# Altium integrated library AMP CHAMP Miniature Ribbon 050 Series II.IntLib: 164 symbols (part 2 of 4)
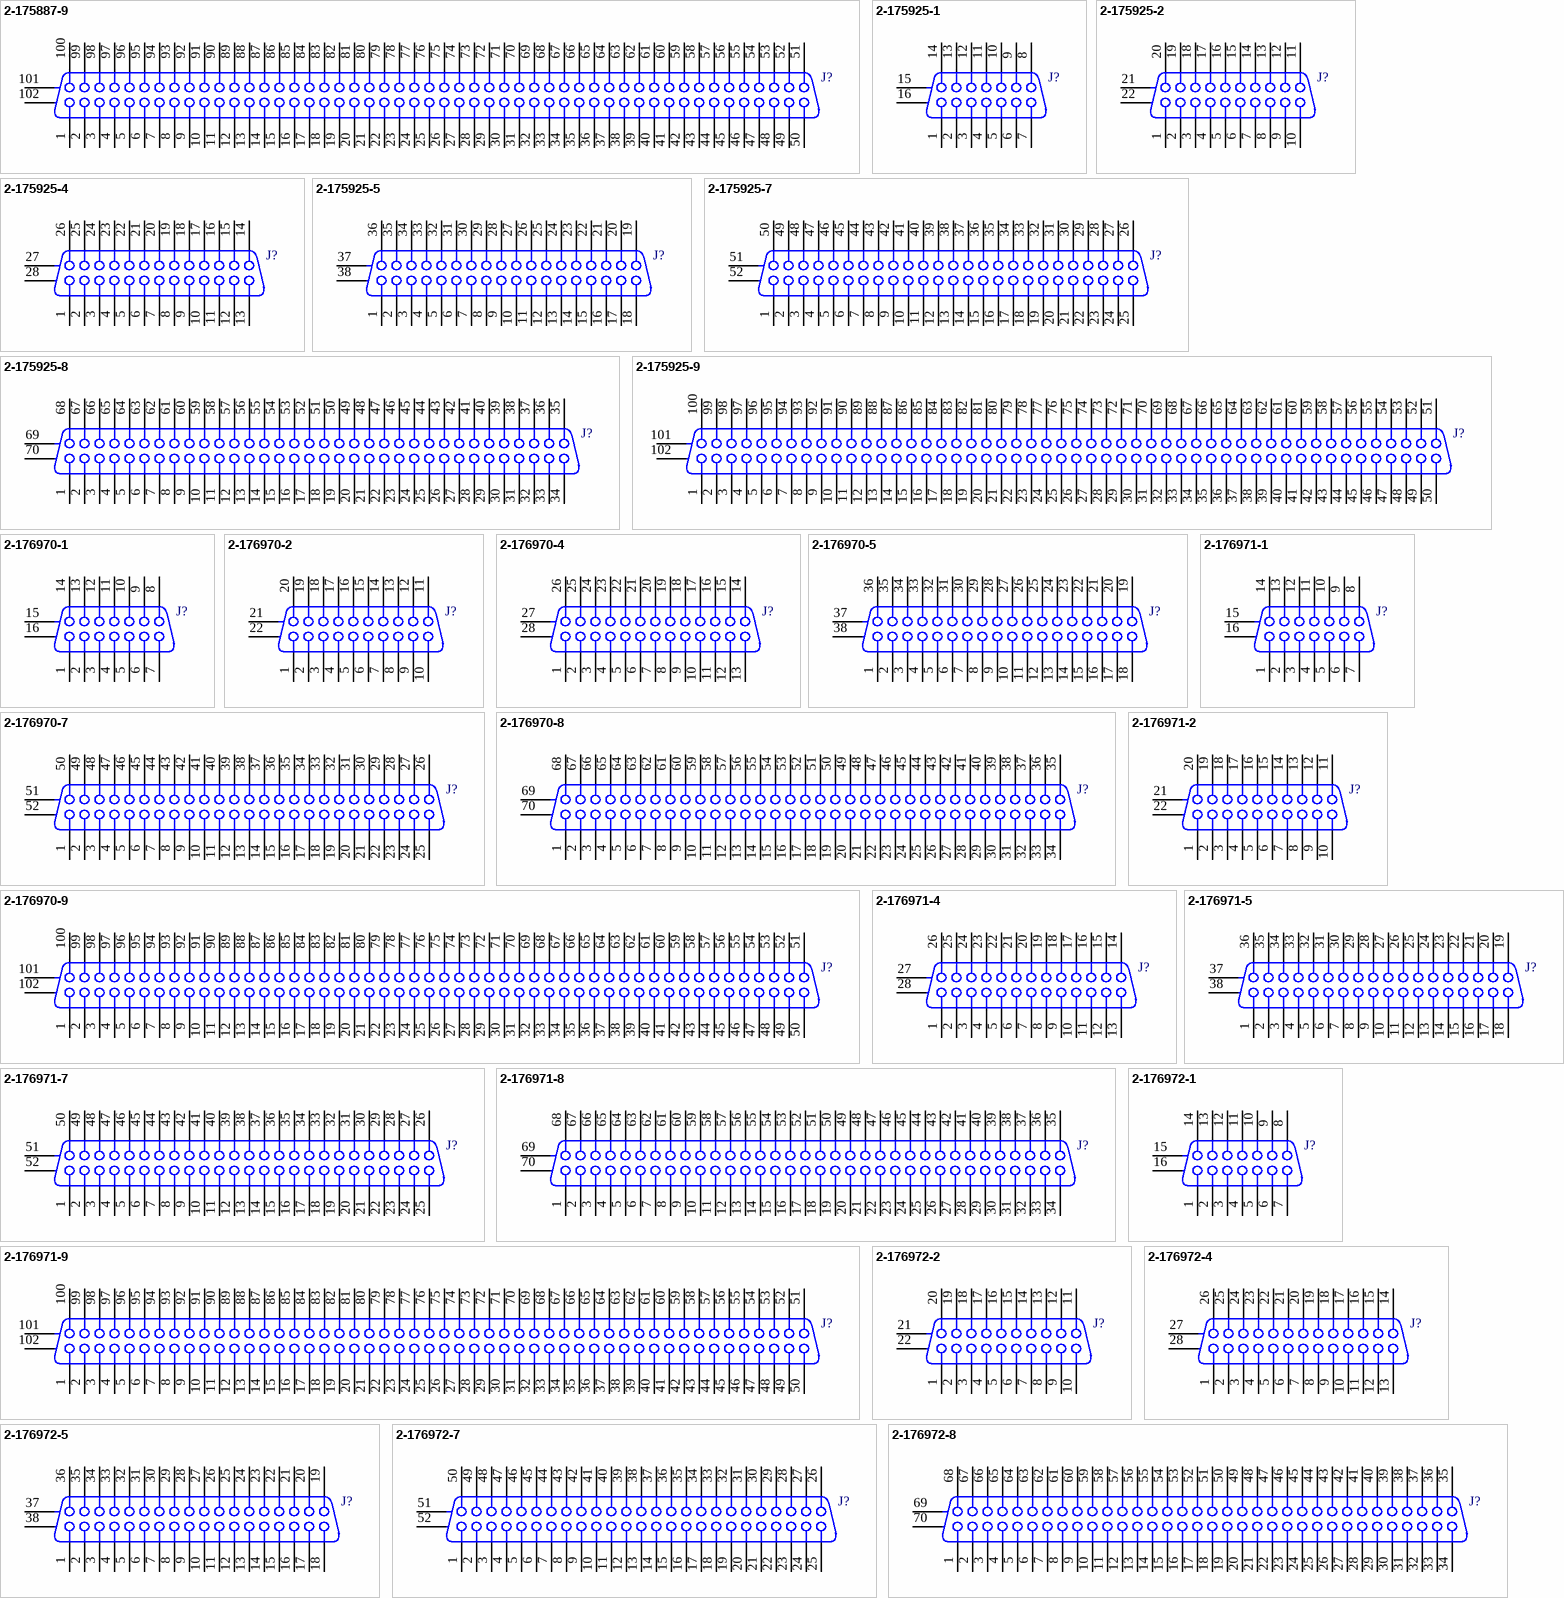
[diagram p7: symbols 2-175887-9 to 2-176972-8]

## 2-176971-8
designator J?
Receptacle Header Assemby (3.9mm) CHAMP .050 Series II Std-Type; ContactMaterial: Phosphor Bronze; ContactPlating: Gold (30); Positions: 68; PCB_Layout: Complies with manufacturer's recommendation.; DrillSize: Corresponds to nominal value.; ComponentAvailability: Obsolete; Published: 15-Jun-2001; LatestRevisionDate: 29-May-2009; LatestRevisionNote: Component Body Added.; DatasheetVersion: 21-Sep-1994; PackageVersion: 21-Sep-1994; PackageReference: 2-176971-8; Publisher: Altium Limited; Orientation: Right Angle; HousingMaterial: Nylon, UL 94V-0; ComponentLink1Description: Manufacturer Link; ComponentLink1URL: http://www.tycoelectronics.com/
footprint 2-176971-8 (Connector; CHAMP Miniature Ribbon 050 Series II; 68 Position; Right Angle)
signal-integrity model CHAMP
pins: 1, 2, 3, 4, 5, 6, 7, 8, 9, 10, 11, 12, 13, 14, 15, 16, 17, 18, 19, 20, 21, 22, 23, 24, 25, 26, 27, 28, 29, 30, 31, 32, 33, 34, 35, 36, 37, 38, 39, 40, 41, 42, 43, 44, 45, 46, 47, 48, 49, 50, 51, 52, 53, 54, 55, 56, 57, 58, 59, 60, 61, 62, 63, 64, 65, 66, 67, 68, 69 MH1, 70 MH2

## 2-176971-9
designator J?
Receptacle Header Assemby (3.9mm) CHAMP .050 Series II Std-Type; ContactMaterial: Phosphor Bronze; ContactPlating: Gold (30); Positions: 100; PCB_Layout: Complies with manufacturer's recommendation.; DrillSize: Corresponds to nominal value.; ComponentAvailability: Obsolete; Published: 15-Jun-2001; LatestRevisionDate: 29-May-2009; LatestRevisionNote: Component Body Added.; DatasheetVersion: 21-Sep-1994; PackageVersion: 21-Sep-1994; PackageReference: 2-176971-9; Publisher: Altium Limited; Orientation: Right Angle; HousingMaterial: Nylon, UL 94V-0; ComponentLink1Description: Manufacturer Link; ComponentLink1URL: http://www.tycoelectronics.com/
footprint 2-176971-9 (Connector; CHAMP Miniature Ribbon 050 Series II; 100 Position; Right Angle)
signal-integrity model CHAMP
pins: 1, 2, 3, 4, 5, 6, 7, 8, 9, 10, 11, 12, 13, 14, 15, 16, 17, 18, 19, 20, 21, 22, 23, 24, 25, 26, 27, 28, 29, 30, 31, 32, 33, 34, 35, 36, 37, 38, 39, 40, 41, 42, 43, 44, 45, 46, 47, 48, 49, 50, 51, 52, 53, 54, 55, 56, 57, 58, 59, 60, 61, 62, 63, 64, 65, 66, 67, 68, 69, 70, 71, 72, 73, 74, 75, 76, 77, 78, 79, 80, 81, 82, 83, 84, 85, 86, 87, 88, 89, 90, 91, 92, 93, 94, 95, 96, 97, 98, 99, 100, 101 MH1, 102 MH2

## 2-176972-1
designator J?
Receptacle Header Assemby (2.2mm) CHAMP .050 Series II Std-Type; ContactMaterial: Copper Alloy; ContactPlating: Gold (30); Positions: 14; PCB_Layout: Complies with manufacturer's recommendation.; DrillSize: Corresponds to nominal value.; ComponentAvailability: Obsolete; Published: 15-Jun-2001; LatestRevisionDate: 29-May-2009; LatestRevisionNote: Component Body Added.; DatasheetVersion: 24-Sep-1994; PackageVersion: 24-Sep-1994; PackageReference: 2-176972-1; Publisher: Altium Limited; Orientation: Right Angle; HousingMaterial: Zinc Die Cast, UL 94V-0; ComponentLink1Description: Manufacturer Link; ComponentLink1URL: http://www.tycoelectronics.com/
footprint 2-176972-1 (Connector; CHAMP Miniature Ribbon 050 Series II; 14 Position; Right Angle)
signal-integrity model CHAMP
pins: 1, 2, 3, 4, 5, 6, 7, 8, 9, 10, 11, 12, 13, 14, 15 MH1, 16 MH2

## 2-176972-2
designator J?
Receptacle Header Assemby (2.2mm) CHAMP .050 Series II Std-Type; ContactMaterial: Copper Alloy; ContactPlating: Gold (30); Positions: 20; PCB_Layout: Complies with manufacturer's recommendation.; DrillSize: Corresponds to nominal value.; ComponentAvailability: Obsolete; Published: 15-Jun-2001; LatestRevisionDate: 29-May-2009; LatestRevisionNote: Component Body Added.; DatasheetVersion: 24-Sep-1994; PackageVersion: 24-Sep-1994; PackageReference: 2-176972-2; Publisher: Altium Limited; Orientation: Right Angle; HousingMaterial: Zinc Die Cast, UL 94V-0; ComponentLink1Description: Manufacturer Link; ComponentLink1URL: http://www.tycoelectronics.com/
footprint 2-176972-2 (Connector; CHAMP Miniature Ribbon 050 Series II; 20 Position; Right Angle)
signal-integrity model CHAMP
pins: 1, 2, 3, 4, 5, 6, 7, 8, 9, 10, 11, 12, 13, 14, 15, 16, 17, 18, 19, 20, 21 MH1, 22 MH2

## 2-176972-4
designator J?
Receptacle Header Assemby (2.2mm) CHAMP .050 Series II Std-Type; ContactMaterial: Copper Alloy; ContactPlating: Gold (30); Positions: 26; PCB_Layout: Complies with manufacturer's recommendation.; DrillSize: Corresponds to nominal value.; ComponentAvailability: Obsolete; Published: 15-Jun-2001; LatestRevisionDate: 29-May-2009; LatestRevisionNote: Component Body Added.; DatasheetVersion: 24-Sep-1994; PackageVersion: 24-Sep-1994; PackageReference: 2-176972-4; Publisher: Altium Limited; Orientation: Right Angle; HousingMaterial: Zinc Die Cast, UL 94V-0; ComponentLink1Description: Manufacturer Link; ComponentLink1URL: http://www.tycoelectronics.com/
footprint 2-176972-4 (Connector; CHAMP Miniature Ribbon 050 Series II; 26 Position; Right Angle)
signal-integrity model CHAMP
pins: 1, 2, 3, 4, 5, 6, 7, 8, 9, 10, 11, 12, 13, 14, 15, 16, 17, 18, 19, 20, 21, 22, 23, 24, 25, 26, 27 MH1, 28 MH2

## 2-176972-5
designator J?
Receptacle Header Assemby (2.2mm) CHAMP .050 Series II Std-Type; ContactMaterial: Copper Alloy; ContactPlating: Gold (30); Positions: 36; PCB_Layout: Complies with manufacturer's recommendation.; DrillSize: Corresponds to nominal value.; ComponentAvailability: Obsolete; Published: 15-Jun-2001; LatestRevisionDate: 29-May-2009; LatestRevisionNote: Component Body Added.; DatasheetVersion: 24-Sep-1994; PackageVersion: 24-Sep-1994; PackageReference: 2-176972-5; Publisher: Altium Limited; Orientation: Right Angle; HousingMaterial: Zinc Die Cast, UL 94V-0; ComponentLink1Description: Manufacturer Link; ComponentLink1URL: http://www.tycoelectronics.com/
footprint 2-176972-5 (Connector; CHAMP Miniature Ribbon 050 Series II; 36 Position; Right Angle)
signal-integrity model CHAMP
pins: 1, 2, 3, 4, 5, 6, 7, 8, 9, 10, 11, 12, 13, 14, 15, 16, 17, 18, 19, 20, 21, 22, 23, 24, 25, 26, 27, 28, 29, 30, 31, 32, 33, 34, 35, 36, 37 MH1, 38 MH2

## 2-176972-7
designator J?
Receptacle Header Assemby (2.2mm) CHAMP .050 Series II Std-Type; ContactMaterial: Copper Alloy; ContactPlating: Gold (30); Positions: 50; PCB_Layout: Complies with manufacturer's recommendation.; DrillSize: Corresponds to nominal value.; ComponentAvailability: Obsolete; Published: 15-Jun-2001; LatestRevisionDate: 29-May-2009; LatestRevisionNote: Component Body Added.; DatasheetVersion: 24-Sep-1994; PackageVersion: 24-Sep-1994; PackageReference: 2-176972-7; Publisher: Altium Limited; Orientation: Right Angle; HousingMaterial: Zinc Die Cast, UL 94V-0; ComponentLink1Description: Manufacturer Link; ComponentLink1URL: http://www.tycoelectronics.com/
footprint 2-176972-7 (Connector; CHAMP Miniature Ribbon 050 Series II; 50 Position; Right Angle)
signal-integrity model CHAMP
pins: 1, 2, 3, 4, 5, 6, 7, 8, 9, 10, 11, 12, 13, 14, 15, 16, 17, 18, 19, 20, 21, 22, 23, 24, 25, 26, 27, 28, 29, 30, 31, 32, 33, 34, 35, 36, 37, 38, 39, 40, 41, 42, 43, 44, 45, 46, 47, 48, 49, 50, 51 MH1, 52 MH2

## 2-176972-8
designator J?
Receptacle Header Assemby (2.2mm) CHAMP .050 Series II Std-Type; ContactMaterial: Copper Alloy; ContactPlating: Gold (30); Positions: 68; PCB_Layout: Complies with manufacturer's recommendation.; DrillSize: Corresponds to nominal value.; ComponentAvailability: Obsolete; Published: 15-Jun-2001; LatestRevisionDate: 29-May-2009; LatestRevisionNote: Component Body Added.; DatasheetVersion: 24-Sep-1994; PackageVersion: 24-Sep-1994; PackageReference: 2-176972-8; Publisher: Altium Limited; Orientation: Right Angle; HousingMaterial: Zinc Die Cast, UL 94V-0; ComponentLink1Description: Manufacturer Link; ComponentLink1URL: http://www.tycoelectronics.com/
footprint 2-176972-8 (Connector; CHAMP Miniature Ribbon 050 Series II; 68 Position; Right Angle)
signal-integrity model CHAMP
pins: 1, 2, 3, 4, 5, 6, 7, 8, 9, 10, 11, 12, 13, 14, 15, 16, 17, 18, 19, 20, 21, 22, 23, 24, 25, 26, 27, 28, 29, 30, 31, 32, 33, 34, 35, 36, 37, 38, 39, 40, 41, 42, 43, 44, 45, 46, 47, 48, 49, 50, 51, 52, 53, 54, 55, 56, 57, 58, 59, 60, 61, 62, 63, 64, 65, 66, 67, 68, 69 MH1, 70 MH2

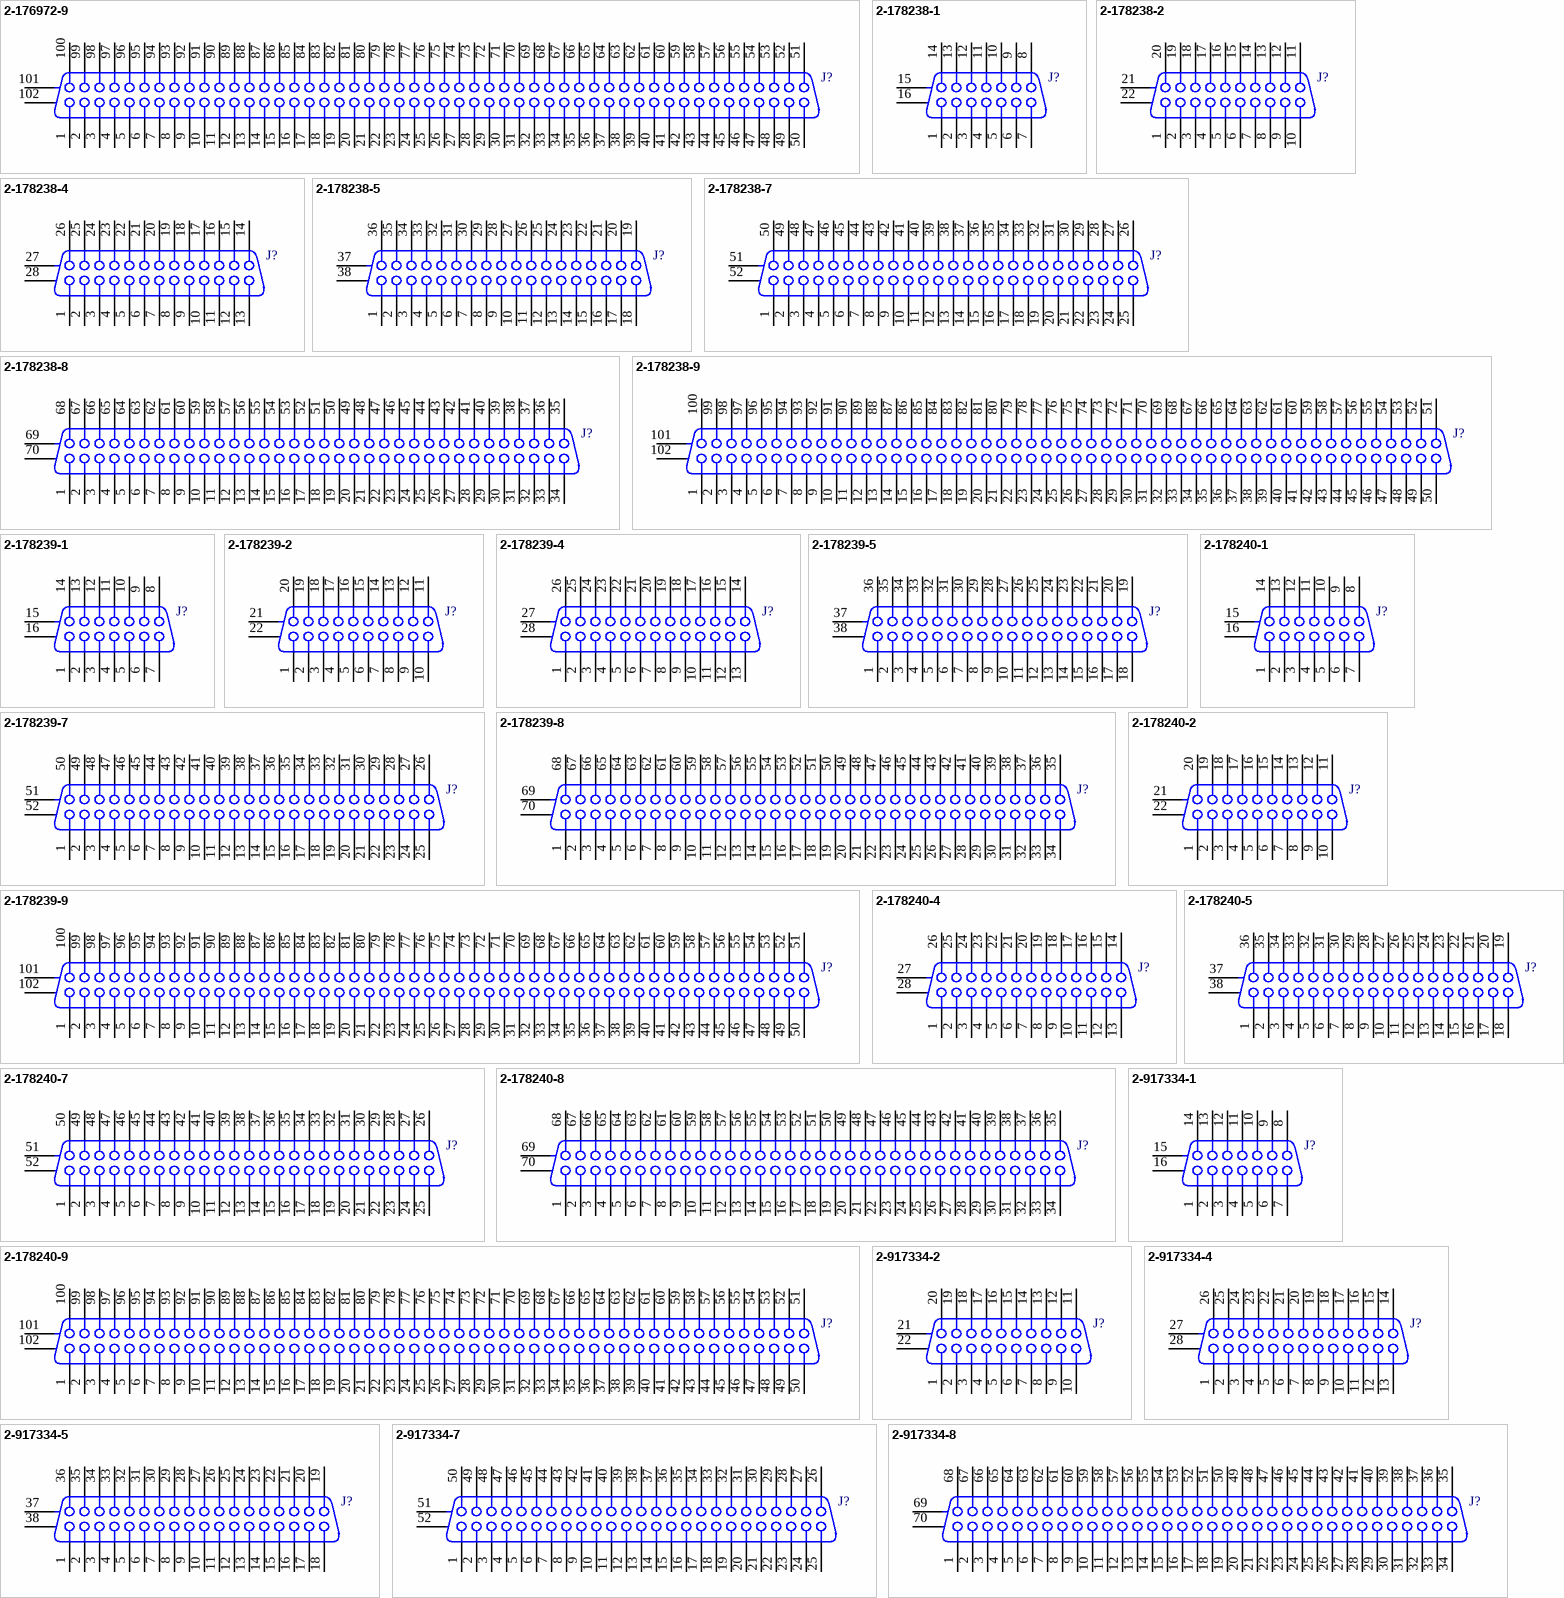
[diagram p2: symbols 2-176972-9 to 2-917334-8]

## 2-176972-9
designator J?
Receptacle Header Assemby (2.2mm) CHAMP .050 Series II Std-Type; ContactMaterial: Copper Alloy; ContactPlating: Gold (30); Positions: 100; PCB_Layout: Complies with manufacturer's recommendation.; DrillSize: Corresponds to nominal value.; ComponentAvailability: Obsolete; Published: 15-Jun-2001; LatestRevisionDate: 29-May-2009; LatestRevisionNote: Component Body Added.; DatasheetVersion: 24-Sep-1994; PackageVersion: 24-Sep-1994; PackageReference: 2-176972-9; Publisher: Altium Limited; Orientation: Right Angle; HousingMaterial: Zinc Die Cast, UL 94V-0; ComponentLink1Description: Manufacturer Link; ComponentLink1URL: http://www.tycoelectronics.com/
footprint 2-176972-9 (Connector; CHAMP Miniature Ribbon 050 Series II; 100 Position; Right Angle)
signal-integrity model CHAMP
pins: 1, 2, 3, 4, 5, 6, 7, 8, 9, 10, 11, 12, 13, 14, 15, 16, 17, 18, 19, 20, 21, 22, 23, 24, 25, 26, 27, 28, 29, 30, 31, 32, 33, 34, 35, 36, 37, 38, 39, 40, 41, 42, 43, 44, 45, 46, 47, 48, 49, 50, 51, 52, 53, 54, 55, 56, 57, 58, 59, 60, 61, 62, 63, 64, 65, 66, 67, 68, 69, 70, 71, 72, 73, 74, 75, 76, 77, 78, 79, 80, 81, 82, 83, 84, 85, 86, 87, 88, 89, 90, 91, 92, 93, 94, 95, 96, 97, 98, 99, 100, 101 MH1, 102 MH2

## 2-178238-1
designator J?
Receptacle Header Assemby (3.1mm) Retention Leg CHAMP .050 Series II Std-Type; ContactMaterial: Phosphor Bronze; ContactPlating: Gold (30); Positions: 14; PCB_Layout: Complies with manufacturer's recommendation.; DrillSize: Corresponds to nominal value.; ComponentAvailability: Obsolete; Published: 15-Jun-2001; LatestRevisionDate: 29-May-2009; LatestRevisionNote: Component Body Added.; DatasheetVersion: Jun-1995; PackageVersion: Jun-1995; PackageReference: 2-178238-1; Publisher: Altium Limited; Orientation: Right Angle; HousingMaterial: Nylon, UL 94V-0; ComponentLink1Description: Manufacturer Link; ComponentLink1URL: http://www.tycoelectronics.com/; ComponentLink2Description: Packaging Specification; ComponentLink2URL: http://ecommas.tycoelectronics.com/commerce/DocumentDelivery/DDEController?Action=showdoc&DocId=Customer+Drawing%7F178238%7FC%7Fpdf%7FEnglish%7FENG_CD_178238_C.pdf
footprint 2-178238-1 (Connector; CHAMP Miniature Ribbon 050 Series II; 14 Position; Right Angle)
signal-integrity model CHAMP
pins: 1, 2, 3, 4, 5, 6, 7, 8, 9, 10, 11, 12, 13, 14, 15 MH1, 16 MH2

## 2-178238-2
designator J?
Receptacle Header Assemby (3.1mm) Retention Leg CHAMP .050 Series II Std-Type; ContactMaterial: Phosphor Bronze; ContactPlating: Gold (30); Positions: 20; PCB_Layout: Complies with manufacturer's recommendation.; DrillSize: Corresponds to nominal value.; ComponentAvailability: Obsolete; Published: 15-Jun-2001; LatestRevisionDate: 29-May-2009; LatestRevisionNote: Component Body Added.; DatasheetVersion: Jun-1995; PackageVersion: Jun-1995; PackageReference: 2-178238-2; Publisher: Altium Limited; Orientation: Right Angle; HousingMaterial: Nylon, UL 94V-0; ComponentLink1Description: Manufacturer Link; ComponentLink1URL: http://www.tycoelectronics.com/; ComponentLink2Description: Packaging Specification; ComponentLink2URL: http://ecommas.tycoelectronics.com/commerce/DocumentDelivery/DDEController?Action=showdoc&DocId=Customer+Drawing%7F178238%7FC%7Fpdf%7FEnglish%7FENG_CD_178238_C.pdf
footprint 2-178238-2 (Connector; CHAMP Miniature Ribbon 050 Series II; 20 Position; Right Angle)
signal-integrity model CHAMP
pins: 1, 2, 3, 4, 5, 6, 7, 8, 9, 10, 11, 12, 13, 14, 15, 16, 17, 18, 19, 20, 21 MH1, 22 MH2

## 2-178238-4
designator J?
Receptacle Header Assemby (3.1mm) Retention Leg CHAMP .050 Series II Std-Type; ContactMaterial: Phosphor Bronze; ContactPlating: Gold (30); Positions: 26; PCB_Layout: Complies with manufacturer's recommendation.; DrillSize: Corresponds to nominal value.; ComponentAvailability: Obsolete; Published: 15-Jun-2001; LatestRevisionDate: 29-May-2009; LatestRevisionNote: Component Body Added.; DatasheetVersion: Jun-1995; PackageVersion: Jun-1995; PackageReference: 2-178238-4; Publisher: Altium Limited; Orientation: Right Angle; HousingMaterial: Nylon, UL 94V-0; ComponentLink1Description: Manufacturer Link; ComponentLink1URL: http://www.tycoelectronics.com/; ComponentLink2Description: Packaging Specification; ComponentLink2URL: http://ecommas.tycoelectronics.com/commerce/DocumentDelivery/DDEController?Action=showdoc&DocId=Customer+Drawing%7F178238%7FC%7Fpdf%7FEnglish%7FENG_CD_178238_C.pdf
footprint 2-178238-4 (Connector; CHAMP Miniature Ribbon 050 Series II; 26 Position; Right Angle)
signal-integrity model CHAMP
pins: 1, 2, 3, 4, 5, 6, 7, 8, 9, 10, 11, 12, 13, 14, 15, 16, 17, 18, 19, 20, 21, 22, 23, 24, 25, 26, 27 MH1, 28 MH2

## 2-178238-5
designator J?
Receptacle Header Assemby (3.1mm) Retention Leg CHAMP .050 Series II Std-Type; ContactMaterial: Phosphor Bronze; ContactPlating: Gold (30); Positions: 36; PCB_Layout: Complies with manufacturer's recommendation.; DrillSize: Corresponds to nominal value.; ComponentAvailability: Obsolete; Published: 15-Jun-2001; LatestRevisionDate: 29-May-2009; LatestRevisionNote: Component Body Added.; DatasheetVersion: Jun-1995; PackageVersion: Jun-1995; PackageReference: 2-178238-5; Publisher: Altium Limited; Orientation: Right Angle; HousingMaterial: Nylon, UL 94V-0; ComponentLink1Description: Manufacturer Link; ComponentLink1URL: http://www.tycoelectronics.com/; ComponentLink2Description: Packaging Specification; ComponentLink2URL: http://ecommas.tycoelectronics.com/commerce/DocumentDelivery/DDEController?Action=showdoc&DocId=Customer+Drawing%7F178238%7FC%7Fpdf%7FEnglish%7FENG_CD_178238_C.pdf
footprint 2-178238-5 (Connector; CHAMP Miniature Ribbon 050 Series II; 36 Position; Right Angle)
signal-integrity model CHAMP
pins: 1, 2, 3, 4, 5, 6, 7, 8, 9, 10, 11, 12, 13, 14, 15, 16, 17, 18, 19, 20, 21, 22, 23, 24, 25, 26, 27, 28, 29, 30, 31, 32, 33, 34, 35, 36, 37 MH1, 38 MH2

## 2-178238-7
designator J?
Receptacle Header Assemby (3.1mm) Retention Leg CHAMP .050 Series II Std-Type; ContactMaterial: Phosphor Bronze; ContactPlating: Gold (30); Positions: 50; PCB_Layout: Complies with manufacturer's recommendation.; DrillSize: Corresponds to nominal value.; ComponentAvailability: Obsolete; Published: 15-Jun-2001; LatestRevisionDate: 29-May-2009; LatestRevisionNote: Component Body Added.; DatasheetVersion: Jun-1995; PackageVersion: Jun-1995; PackageReference: 2-178238-7; Publisher: Altium Limited; Orientation: Right Angle; HousingMaterial: Nylon, UL 94V-0; ComponentLink1Description: Manufacturer Link; ComponentLink1URL: http://www.tycoelectronics.com/; ComponentLink2Description: Packaging Specification; ComponentLink2URL: http://ecommas.tycoelectronics.com/commerce/DocumentDelivery/DDEController?Action=showdoc&DocId=Customer+Drawing%7F178238%7FC%7Fpdf%7FEnglish%7FENG_CD_178238_C.pdf
footprint 2-178238-7 (Connector; CHAMP Miniature Ribbon 050 Series II; 50 Position; Right Angle)
signal-integrity model CHAMP
pins: 1, 2, 3, 4, 5, 6, 7, 8, 9, 10, 11, 12, 13, 14, 15, 16, 17, 18, 19, 20, 21, 22, 23, 24, 25, 26, 27, 28, 29, 30, 31, 32, 33, 34, 35, 36, 37, 38, 39, 40, 41, 42, 43, 44, 45, 46, 47, 48, 49, 50, 51 MH1, 52 MH2

## 2-178238-8
designator J?
Receptacle Header Assemby (3.1mm) Retention Leg CHAMP .050 Series II Std-Type; ContactMaterial: Phosphor Bronze; ContactPlating: Gold (30); Positions: 68; PCB_Layout: Complies with manufacturer's recommendation.; DrillSize: Corresponds to nominal value.; ComponentAvailability: Obsolete; Published: 15-Jun-2001; LatestRevisionDate: 29-May-2009; LatestRevisionNote: Component Body Added.; DatasheetVersion: Jun-1995; PackageVersion: Jun-1995; PackageReference: 2-178238-8; Publisher: Altium Limited; Orientation: Right Angle; HousingMaterial: Nylon, UL 94V-0; ComponentLink1Description: Manufacturer Link; ComponentLink1URL: http://www.tycoelectronics.com/; ComponentLink2Description: Packaging Specification; ComponentLink2URL: http://ecommas.tycoelectronics.com/commerce/DocumentDelivery/DDEController?Action=showdoc&DocId=Customer+Drawing%7F178238%7FC%7Fpdf%7FEnglish%7FENG_CD_178238_C.pdf
footprint 2-178238-8 (Connector; CHAMP Miniature Ribbon 050 Series II; 68 Position; Right Angle)
signal-integrity model CHAMP
pins: 1, 2, 3, 4, 5, 6, 7, 8, 9, 10, 11, 12, 13, 14, 15, 16, 17, 18, 19, 20, 21, 22, 23, 24, 25, 26, 27, 28, 29, 30, 31, 32, 33, 34, 35, 36, 37, 38, 39, 40, 41, 42, 43, 44, 45, 46, 47, 48, 49, 50, 51, 52, 53, 54, 55, 56, 57, 58, 59, 60, 61, 62, 63, 64, 65, 66, 67, 68, 69 MH1, 70 MH2

## 2-178238-9
designator J?
Receptacle Header Assemby (3.1mm) Retention Leg CHAMP .050 Series II Std-Type; ContactMaterial: Phosphor Bronze; ContactPlating: Gold (30); Positions: 100; PCB_Layout: Complies with manufacturer's recommendation.; DrillSize: Corresponds to nominal value.; ComponentAvailability: Obsolete; Published: 15-Jun-2001; LatestRevisionDate: 29-May-2009; LatestRevisionNote: PCB pins re-numbered, Component Body Added.; DatasheetVersion: Jun-1995; PackageVersion: Jun-1995; PackageReference: 2-178238-9; Publisher: Altium Limited; Orientation: Right Angle; HousingMaterial: Nylon, UL 94V-0; ComponentLink1Description: Manufacturer Link; ComponentLink1URL: http://www.tycoelectronics.com/; ComponentLink2Description: Packaging Specification; ComponentLink2URL: http://ecommas.tycoelectronics.com/commerce/DocumentDelivery/DDEController?Action=showdoc&DocId=Customer+Drawing%7F178238%7FC%7Fpdf%7FEnglish%7FENG_CD_178238_C.pdf
footprint 2-178238-9 (Connector; CHAMP Miniature Ribbon 050 Series II; 100 Position; Right Angle)
signal-integrity model CHAMP
pins: 1, 2, 3, 4, 5, 6, 7, 8, 9, 10, 11, 12, 13, 14, 15, 16, 17, 18, 19, 20, 21, 22, 23, 24, 25, 26, 27, 28, 29, 30, 31, 32, 33, 34, 35, 36, 37, 38, 39, 40, 41, 42, 43, 44, 45, 46, 47, 48, 49, 50, 51, 52, 53, 54, 55, 56, 57, 58, 59, 60, 61, 62, 63, 64, 65, 66, 67, 68, 69, 70, 71, 72, 73, 74, 75, 76, 77, 78, 79, 80, 81, 82, 83, 84, 85, 86, 87, 88, 89, 90, 91, 92, 93, 94, 95, 96, 97, 98, 99, 100, 101 MH1, 102 MH2

## 2-178239-1
designator J?
Receptacle Header Assemby (3.9mm) Retention Leg CHAMP .050 Series II Std-Type; ContactMaterial: Copper Alloy; ContactPlating: Gold (30); Positions: 14; PCB_Layout: Complies with manufacturer's recommendation.; DrillSize: Corresponds to nominal value.; Published: 15-Jun-2001; LatestRevisionDate: 29-May-2009; LatestRevisionNote: Component Body Added.; DatasheetVersion: Jun-1995; PackageVersion: Jun-1995; PackageReference: 2-178239-1; Publisher: Altium Limited; Orientation: Right Angle; HousingMaterial: Zinc Die Cast, UL 94V-0; ComponentLink1Description: Manufacturer Link; ComponentLink1URL: http://www.tycoelectronics.com/; ComponentLink2Description: Packaging Specification; ComponentLink2URL: http://ecommas.tycoelectronics.com/commerce/DocumentDelivery/DDEController?Action=showdoc&DocId=Customer+Drawing%7F178239%7FB%7Fpdf%7FEnglish%7FENG_CD_178239_B.pdf
footprint 2-178239-1 (Connector; CHAMP Miniature Ribbon 050 Series II; 14 Position; Right Angle)
signal-integrity model CHAMP
pins: 1, 2, 3, 4, 5, 6, 7, 8, 9, 10, 11, 12, 13, 14, 15 MH1, 16 MH2

## 2-178239-2
designator J?
Receptacle Header Assemby (3.9mm) Retention Leg CHAMP .050 Series II Std-Type; ContactMaterial: Copper Alloy; ContactPlating: Gold (30); Positions: 20; PCB_Layout: Complies with manufacturer's recommendation.; DrillSize: Corresponds to nominal value.; Published: 15-Jun-2001; LatestRevisionDate: 29-May-2009; LatestRevisionNote: Component Body Added.; DatasheetVersion: Jun-1995; PackageVersion: Jun-1995; PackageReference: 2-178239-2; Publisher: Altium Limited; Orientation: Right Angle; HousingMaterial: Zinc Die Cast, UL 94V-0; ComponentLink1Description: Manufacturer Link; ComponentLink1URL: http://www.tycoelectronics.com/; ComponentLink2Description: Packaging Specification; ComponentLink2URL: http://ecommas.tycoelectronics.com/commerce/DocumentDelivery/DDEController?Action=showdoc&DocId=Customer+Drawing%7F178239%7FB%7Fpdf%7FEnglish%7FENG_CD_178239_B.pdf
footprint 2-178239-2 (Connector; CHAMP Miniature Ribbon 050 Series II; 20 Position; Right Angle)
signal-integrity model CHAMP
pins: 1, 2, 3, 4, 5, 6, 7, 8, 9, 10, 11, 12, 13, 14, 15, 16, 17, 18, 19, 20, 21 MH1, 22 MH2

## 2-178239-4
designator J?
Receptacle Header Assemby (3.9mm) Retention Leg CHAMP .050 Series II Std-Type; ContactMaterial: Copper Alloy; ContactPlating: Gold (30); Positions: 26; PCB_Layout: Complies with manufacturer's recommendation.; DrillSize: Corresponds to nominal value.; Published: 15-Jun-2001; LatestRevisionDate: 29-May-2009; LatestRevisionNote: Component Body Added.; DatasheetVersion: Jun-1995; PackageVersion: Jun-1995; PackageReference: 2-178239-4; Publisher: Altium Limited; Orientation: Right Angle; HousingMaterial: Zinc Die Cast, UL 94V-0; ComponentLink1Description: Manufacturer Link; ComponentLink1URL: http://www.tycoelectronics.com/; ComponentLink2Description: Packaging Specification; ComponentLink2URL: http://ecommas.tycoelectronics.com/commerce/DocumentDelivery/DDEController?Action=showdoc&DocId=Customer+Drawing%7F178239%7FB%7Fpdf%7FEnglish%7FENG_CD_178239_B.pdf
footprint 2-178239-4 (Connector; CHAMP Miniature Ribbon 050 Series II; 26 Position; Right Angle)
signal-integrity model CHAMP
pins: 1, 2, 3, 4, 5, 6, 7, 8, 9, 10, 11, 12, 13, 14, 15, 16, 17, 18, 19, 20, 21, 22, 23, 24, 25, 26, 27 MH1, 28 MH2

## 2-178239-5
designator J?
Receptacle Header Assemby (3.9mm) Retention Leg CHAMP .050 Series II Std-Type; ContactMaterial: Copper Alloy; ContactPlating: Gold (30); Positions: 36; PCB_Layout: Complies with manufacturer's recommendation.; DrillSize: Corresponds to nominal value.; Published: 15-Jun-2001; LatestRevisionDate: 29-May-2009; LatestRevisionNote: Component Body Added.; DatasheetVersion: Jun-1995; PackageVersion: Jun-1995; PackageReference: 2-178239-5; Publisher: Altium Limited; Orientation: Right Angle; HousingMaterial: Zinc Die Cast, UL 94V-0; ComponentLink1Description: Manufacturer Link; ComponentLink1URL: http://www.tycoelectronics.com/; ComponentLink2Description: Packaging Specification; ComponentLink2URL: http://ecommas.tycoelectronics.com/commerce/DocumentDelivery/DDEController?Action=showdoc&DocId=Customer+Drawing%7F178239%7FB%7Fpdf%7FEnglish%7FENG_CD_178239_B.pdf
footprint 2-178239-5 (Connector; CHAMP Miniature Ribbon 050 Series II; 36 Position; Right Angle)
signal-integrity model CHAMP
pins: 1, 2, 3, 4, 5, 6, 7, 8, 9, 10, 11, 12, 13, 14, 15, 16, 17, 18, 19, 20, 21, 22, 23, 24, 25, 26, 27, 28, 29, 30, 31, 32, 33, 34, 35, 36, 37 MH1, 38 MH2

## 2-178239-7
designator J?
Receptacle Header Assemby (3.9mm) Retention Leg CHAMP .050 Series II Std-Type; ContactMaterial: Copper Alloy; ContactPlating: Gold (30); Positions: 50; PCB_Layout: Complies with manufacturer's recommendation.; DrillSize: Corresponds to nominal value.; Published: 15-Jun-2001; LatestRevisionDate: 29-May-2009; LatestRevisionNote: Component Body Added.; DatasheetVersion: Jun-1995; PackageVersion: Jun-1995; PackageReference: 2-178239-7; Publisher: Altium Limited; Orientation: Right Angle; HousingMaterial: Zinc Die Cast, UL 94V-0; ComponentLink1Description: Manufacturer Link; ComponentLink1URL: http://www.tycoelectronics.com/; ComponentLink2Description: Packaging Specification; ComponentLink2URL: http://ecommas.tycoelectronics.com/commerce/DocumentDelivery/DDEController?Action=showdoc&DocId=Customer+Drawing%7F178239%7FB%7Fpdf%7FEnglish%7FENG_CD_178239_B.pdf
footprint 2-178239-7 (Connector; CHAMP Miniature Ribbon 050 Series II; 50 Position; Right Angle)
signal-integrity model CHAMP
pins: 1, 2, 3, 4, 5, 6, 7, 8, 9, 10, 11, 12, 13, 14, 15, 16, 17, 18, 19, 20, 21, 22, 23, 24, 25, 26, 27, 28, 29, 30, 31, 32, 33, 34, 35, 36, 37, 38, 39, 40, 41, 42, 43, 44, 45, 46, 47, 48, 49, 50, 51 MH1, 52 MH2

## 2-178239-8
designator J?
Receptacle Header Assemby (3.9mm) Retention Leg CHAMP .050 Series II Std-Type; ContactMaterial: Copper Alloy; ContactPlating: Gold (30); Positions: 68; PCB_Layout: Complies with manufacturer's recommendation.; DrillSize: Corresponds to nominal value.; Published: 15-Jun-2001; LatestRevisionDate: 29-May-2009; LatestRevisionNote: Component Body Added.; DatasheetVersion: Jun-1995; PackageVersion: Jun-1995; PackageReference: 2-178239-8; Publisher: Altium Limited; Orientation: Right Angle; HousingMaterial: Zinc Die Cast, UL 94V-0; ComponentLink1Description: Manufacturer Link; ComponentLink1URL: http://www.tycoelectronics.com/; ComponentLink2Description: Packaging Specification; ComponentLink2URL: http://ecommas.tycoelectronics.com/commerce/DocumentDelivery/DDEController?Action=showdoc&DocId=Customer+Drawing%7F178239%7FB%7Fpdf%7FEnglish%7FENG_CD_178239_B.pdf
footprint 2-178239-8 (Connector; CHAMP Miniature Ribbon 050 Series II; 68 Position; Right Angle)
signal-integrity model CHAMP
pins: 1, 2, 3, 4, 5, 6, 7, 8, 9, 10, 11, 12, 13, 14, 15, 16, 17, 18, 19, 20, 21, 22, 23, 24, 25, 26, 27, 28, 29, 30, 31, 32, 33, 34, 35, 36, 37, 38, 39, 40, 41, 42, 43, 44, 45, 46, 47, 48, 49, 50, 51, 52, 53, 54, 55, 56, 57, 58, 59, 60, 61, 62, 63, 64, 65, 66, 67, 68, 69 MH1, 70 MH2

## 2-178239-9
designator J?
Receptacle Header Assemby (3.9mm) Retention Leg CHAMP .050 Series II Std-Type; ContactMaterial: Copper Alloy; ContactPlating: Gold (12); Positions: 100; PCB_Layout: Complies with manufacturer's recommendation.; DrillSize: Corresponds to nominal value.; Published: 15-Jun-2001; LatestRevisionDate: 29-May-2009; LatestRevisionNote: Component Body Added.; DatasheetVersion: Jun-1995; PackageVersion: Jun-1995; PackageReference: 2-178239-9; Publisher: Altium Limited; Orientation: Right Angle; HousingMaterial: Zinc Die Cast, UL 94V-0; ComponentLink1Description: Manufacturer Link; ComponentLink1URL: http://www.tycoelectronics.com/; ComponentLink2Description: Packaging Specification; ComponentLink2URL: http://ecommas.tycoelectronics.com/commerce/DocumentDelivery/DDEController?Action=showdoc&DocId=Customer+Drawing%7F178239%7FB%7Fpdf%7FEnglish%7FENG_CD_178239_B.pdf
footprint 2-178239-9 (Connector; CHAMP Miniature Ribbon 050 Series II; 100 Position; Right Angle)
signal-integrity model CHAMP
pins: 1, 2, 3, 4, 5, 6, 7, 8, 9, 10, 11, 12, 13, 14, 15, 16, 17, 18, 19, 20, 21, 22, 23, 24, 25, 26, 27, 28, 29, 30, 31, 32, 33, 34, 35, 36, 37, 38, 39, 40, 41, 42, 43, 44, 45, 46, 47, 48, 49, 50, 51, 52, 53, 54, 55, 56, 57, 58, 59, 60, 61, 62, 63, 64, 65, 66, 67, 68, 69, 70, 71, 72, 73, 74, 75, 76, 77, 78, 79, 80, 81, 82, 83, 84, 85, 86, 87, 88, 89, 90, 91, 92, 93, 94, 95, 96, 97, 98, 99, 100, 101 MH1, 102 MH2

## 2-178240-1
designator J?
Receptacle Header Assemby (2.2mm) Retention Leg CHAMP .050 Series II Std-Type; ContactMaterial: Copper Alloy; ContactPlating: Gold (30); Positions: 14; PCB_Layout: Complies with manufacturer's recommendation.; DrillSize: Corresponds to nominal value.; ComponentAvailability: Obsolete; Published: 15-Jun-2001; LatestRevisionDate: 29-May-2009; LatestRevisionNote: Component Body Added.; DatasheetVersion: Jun-1995; PackageVersion: Jun-1995; PackageReference: 2-178240-1; Publisher: Altium Limited; Orientation: Right Angle; HousingMaterial: Zinc Die Cast; ComponentLink1Description: Manufacturer Link; ComponentLink1URL: http://www.tycoelectronics.com/; ComponentLink2Description: Packaging Specification; ComponentLink2URL: http://ecommas.tycoelectronics.com/commerce/DocumentDelivery/DDEController?Action=showdoc&DocId=Customer+Drawing%7F178240%7FD%7Fpdf%7FEnglish%7FENG_CD_178240_D.pdf
footprint 2-178240-1 (Connector; CHAMP Miniature Ribbon 050 Series II; 14 Position; Right Angle)
signal-integrity model CHAMP
pins: 1, 2, 3, 4, 5, 6, 7, 8, 9, 10, 11, 12, 13, 14, 15 MH1, 16 MH2

## 2-178240-2
designator J?
Receptacle Header Assemby (2.2mm) Retention Leg CHAMP .050 Series II Std-Type; ContactMaterial: Copper Alloy; ContactPlating: Gold (30); Positions: 20; PCB_Layout: Complies with manufacturer's recommendation.; DrillSize: Corresponds to nominal value.; ComponentAvailability: Obsolete; Published: 15-Jun-2001; LatestRevisionDate: 29-May-2009; LatestRevisionNote: Component Body Added.; DatasheetVersion: Jun-1995; PackageVersion: Jun-1995; PackageReference: 2-178240-2; Publisher: Altium Limited; Orientation: Right Angle; HousingMaterial: Zinc Die Cast; ComponentLink1Description: Manufacturer Link; ComponentLink1URL: http://www.tycoelectronics.com/; ComponentLink2Description: Packaging Specification; ComponentLink2URL: http://ecommas.tycoelectronics.com/commerce/DocumentDelivery/DDEController?Action=showdoc&DocId=Customer+Drawing%7F178240%7FD%7Fpdf%7FEnglish%7FENG_CD_178240_D.pdf
footprint 2-178240-2 (Connector; CHAMP Miniature Ribbon 050 Series II; 20 Position; Right Angle)
signal-integrity model CHAMP
pins: 1, 2, 3, 4, 5, 6, 7, 8, 9, 10, 11, 12, 13, 14, 15, 16, 17, 18, 19, 20, 21 MH1, 22 MH2

## 2-178240-4
designator J?
Receptacle Header Assemby (2.2mm) Retention Leg CHAMP .050 Series II Std-Type; ContactMaterial: Copper Alloy; ContactPlating: Gold (30); Positions: 26; PCB_Layout: Complies with manufacturer's recommendation.; DrillSize: Corresponds to nominal value.; ComponentAvailability: Obsolete; Published: 15-Jun-2001; LatestRevisionDate: 29-May-2009; LatestRevisionNote: Component Body Added.; DatasheetVersion: Jun-1995; PackageVersion: Jun-1995; PackageReference: 2-178240-4; Publisher: Altium Limited; Orientation: Right Angle; HousingMaterial: Zinc Die Cast; ComponentLink1Description: Manufacturer Link; ComponentLink1URL: http://www.tycoelectronics.com/; ComponentLink2Description: Packaging Specification; ComponentLink2URL: http://ecommas.tycoelectronics.com/commerce/DocumentDelivery/DDEController?Action=showdoc&DocId=Customer+Drawing%7F178240%7FD%7Fpdf%7FEnglish%7FENG_CD_178240_D.pdf
footprint 2-178240-4 (Connector; CHAMP Miniature Ribbon 050 Series II; 26 Position; Right Angle)
signal-integrity model CHAMP
pins: 1, 2, 3, 4, 5, 6, 7, 8, 9, 10, 11, 12, 13, 14, 15, 16, 17, 18, 19, 20, 21, 22, 23, 24, 25, 26, 27 MH1, 28 MH2

## 2-178240-5
designator J?
Receptacle Header Assemby (2.2mm) Retention Leg CHAMP .050 Series II Std-Type; ContactMaterial: Copper Alloy; ContactPlating: Gold (30); Positions: 36; PCB_Layout: Complies with manufacturer's recommendation.; DrillSize: Corresponds to nominal value.; ComponentAvailability: Obsolete; Published: 15-Jun-2001; LatestRevisionDate: 29-May-2009; LatestRevisionNote: Component Body Added.; DatasheetVersion: Jun-1995; PackageVersion: Jun-1995; PackageReference: 2-178240-5; Publisher: Altium Limited; Orientation: Right Angle; HousingMaterial: Zinc Die Cast; ComponentLink1Description: Manufacturer Link; ComponentLink1URL: http://www.tycoelectronics.com/; ComponentLink2Description: Packaging Specification; ComponentLink2URL: http://ecommas.tycoelectronics.com/commerce/DocumentDelivery/DDEController?Action=showdoc&DocId=Customer+Drawing%7F178240%7FD%7Fpdf%7FEnglish%7FENG_CD_178240_D.pdf
footprint 2-178240-5 (Connector; CHAMP Miniature Ribbon 050 Series II; 36 Position; Right Angle)
signal-integrity model CHAMP
pins: 1, 2, 3, 4, 5, 6, 7, 8, 9, 10, 11, 12, 13, 14, 15, 16, 17, 18, 19, 20, 21, 22, 23, 24, 25, 26, 27, 28, 29, 30, 31, 32, 33, 34, 35, 36, 37 MH1, 38 MH2

## 2-178240-7
designator J?
Receptacle Header Assemby (2.2mm) Retention Leg CHAMP .050 Series II Std-Type; ContactMaterial: Copper Alloy; ContactPlating: Gold (30); Positions: 50; PCB_Layout: Complies with manufacturer's recommendation.; DrillSize: Corresponds to nominal value.; ComponentAvailability: Obsolete; Published: 15-Jun-2001; LatestRevisionDate: 29-May-2009; LatestRevisionNote: Component Body Added.; DatasheetVersion: Jun-1995; PackageVersion: Jun-1995; PackageReference: 2-178240-7; Publisher: Altium Limited; Orientation: Right Angle; HousingMaterial: Zinc Die Cast; ComponentLink1Description: Manufacturer Link; ComponentLink1URL: http://www.tycoelectronics.com/; ComponentLink2Description: Packaging Specification; ComponentLink2URL: http://ecommas.tycoelectronics.com/commerce/DocumentDelivery/DDEController?Action=showdoc&DocId=Customer+Drawing%7F178240%7FD%7Fpdf%7FEnglish%7FENG_CD_178240_D.pdf
footprint 2-178240-7 (Connector; CHAMP Miniature Ribbon 050 Series II; 50 Position; Right Angle)
signal-integrity model CHAMP
pins: 1, 2, 3, 4, 5, 6, 7, 8, 9, 10, 11, 12, 13, 14, 15, 16, 17, 18, 19, 20, 21, 22, 23, 24, 25, 26, 27, 28, 29, 30, 31, 32, 33, 34, 35, 36, 37, 38, 39, 40, 41, 42, 43, 44, 45, 46, 47, 48, 49, 50, 51 MH1, 52 MH2

## 2-178240-8
designator J?
Receptacle Header Assemby (2.2mm) Retention Leg CHAMP .050 Series II Std-Type; ContactMaterial: Copper Alloy; ContactPlating: Gold (30); Positions: 68; PCB_Layout: Complies with manufacturer's recommendation.; DrillSize: Corresponds to nominal value.; ComponentAvailability: Obsolete; Published: 15-Jun-2001; LatestRevisionDate: 29-May-2009; LatestRevisionNote: Component Body Added.; DatasheetVersion: Jun-1995; PackageVersion: Jun-1995; PackageReference: 2-178240-8; Publisher: Altium Limited; Orientation: Right Angle; HousingMaterial: Zinc Die Cast; ComponentLink1Description: Manufacturer Link; ComponentLink1URL: http://www.tycoelectronics.com/; ComponentLink2Description: Packaging Specification; ComponentLink2URL: http://ecommas.tycoelectronics.com/commerce/DocumentDelivery/DDEController?Action=showdoc&DocId=Customer+Drawing%7F178240%7FD%7Fpdf%7FEnglish%7FENG_CD_178240_D.pdf
footprint 2-178240-8 (Connector; CHAMP Miniature Ribbon 050 Series II; 68 Position; Right Angle)
signal-integrity model CHAMP
pins: 1, 2, 3, 4, 5, 6, 7, 8, 9, 10, 11, 12, 13, 14, 15, 16, 17, 18, 19, 20, 21, 22, 23, 24, 25, 26, 27, 28, 29, 30, 31, 32, 33, 34, 35, 36, 37, 38, 39, 40, 41, 42, 43, 44, 45, 46, 47, 48, 49, 50, 51, 52, 53, 54, 55, 56, 57, 58, 59, 60, 61, 62, 63, 64, 65, 66, 67, 68, 69 MH1, 70 MH2

## 2-178240-9
designator J?
Receptacle Header Assemby (2.2mm) Retention Leg CHAMP .050 Series II Std-Type; ContactMaterial: Copper Alloy; ContactPlating: Gold (30); Positions: 100; PCB_Layout: Complies with manufacturer's recommendation.; DrillSize: Corresponds to nominal value.; ComponentAvailability: Obsolete; Published: 15-Jun-2001; LatestRevisionDate: 29-May-2009; LatestRevisionNote: Component Body Added.; DatasheetVersion: Jun-1995; PackageVersion: Jun-1995; PackageReference: 2-178240-9; Publisher: Altium Limited; Orientation: Right Angle; HousingMaterial: Zinc Die Cast; ComponentLink1Description: Manufacturer Link; ComponentLink1URL: http://www.tycoelectronics.com/; ComponentLink2Description: Packaging Specification; ComponentLink2URL: http://ecommas.tycoelectronics.com/commerce/DocumentDelivery/DDEController?Action=showdoc&DocId=Customer+Drawing%7F178240%7FD%7Fpdf%7FEnglish%7FENG_CD_178240_D.pdf
footprint 2-178240-9 (Connector; CHAMP Miniature Ribbon 050 Series II; 100 Position; Right Angle)
signal-integrity model CHAMP
pins: 1, 2, 3, 4, 5, 6, 7, 8, 9, 10, 11, 12, 13, 14, 15, 16, 17, 18, 19, 20, 21, 22, 23, 24, 25, 26, 27, 28, 29, 30, 31, 32, 33, 34, 35, 36, 37, 38, 39, 40, 41, 42, 43, 44, 45, 46, 47, 48, 49, 50, 51, 52, 53, 54, 55, 56, 57, 58, 59, 60, 61, 62, 63, 64, 65, 66, 67, 68, 69, 70, 71, 72, 73, 74, 75, 76, 77, 78, 79, 80, 81, 82, 83, 84, 85, 86, 87, 88, 89, 90, 91, 92, 93, 94, 95, 96, 97, 98, 99, 100, 101 MH1, 102 MH2

## 2-917334-1
designator J?
Receptacle Header Assemby, Vertical, Retention Leg CHAMP .050 Series II Std-Type (M2.6); ContactMaterial: Phosphor Bronze; ContactPlating: Gold (30); Positions: 14; PCB_Layout: Complies with manufacturer's recommendation.; DrillSize: Corresponds to nominal value.; Published: 15-Jun-2001; LatestRevisionDate: 29-May-2009; LatestRevisionNote: Component Body Added.; DatasheetVersion: 25-Jan-1996; PackageVersion: 25-Jan-1996; PackageReference: 2-917334-1; Publisher: Altium Limited; Orientation: Vertical; HousingMaterial: Thermoplastic, Zinc Die Cast, UL 94V-0; ComponentLink1Description: Manufacturer Link; ComponentLink1URL: http://www.tycoelectronics.com/; ComponentLink2Description: Packaging Specification; ComponentLink2URL: http://ecommas.tycoelectronics.com/commerce/DocumentDelivery/DDEController?Action=showdoc&DocId=Customer+Drawing%7F917334%7FC%7Fpdf%7FEnglish%7FENG_CD_917334_C.pdf
footprint 2-917334-1 (Connector; CHAMP Miniature Ribbon 050 Series II; 14 Position; Vertical)
signal-integrity model CHAMP
pins: 1, 2, 3, 4, 5, 6, 7, 8, 9, 10, 11, 12, 13, 14, 15 MH1, 16 MH2

## 2-917334-2
designator J?
Receptacle Header Assemby, Vertical, Retention Leg CHAMP .050 Series II Std-Type (M2.6); ContactMaterial: Phosphor Bronze; ContactPlating: Gold (30); Positions: 20; PCB_Layout: Complies with manufacturer's recommendation.; DrillSize: Corresponds to nominal value.; Published: 15-Jun-2001; LatestRevisionDate: 29-May-2009; LatestRevisionNote: Component Body Added.; DatasheetVersion: 25-Jan-1996; PackageVersion: 25-Jan-1996; PackageReference: 2-917334-2; Publisher: Altium Limited; Orientation: Vertical; HousingMaterial: Thermoplastic, Zinc Die Cast, UL 94V-0; ComponentLink1Description: Manufacturer Link; ComponentLink1URL: http://www.tycoelectronics.com/; ComponentLink2Description: Packaging Specification; ComponentLink2URL: http://ecommas.tycoelectronics.com/commerce/DocumentDelivery/DDEController?Action=showdoc&DocId=Customer+Drawing%7F917334%7FC%7Fpdf%7FEnglish%7FENG_CD_917334_C.pdf
footprint 2-917334-2 (Connector; CHAMP Miniature Ribbon 050 Series II; 20 Position; Vertical)
signal-integrity model CHAMP
pins: 1, 2, 3, 4, 5, 6, 7, 8, 9, 10, 11, 12, 13, 14, 15, 16, 17, 18, 19, 20, 21 MH1, 22 MH2

## 2-917334-4
designator J?
Receptacle Header Assemby, Vertical, Retention Leg CHAMP .050 Series II Std-Type (M2.6); ContactMaterial: Phosphor Bronze; ContactPlating: Gold (30); Positions: 26; PCB_Layout: Complies with manufacturer's recommendation.; DrillSize: Corresponds to nominal value.; Published: 15-Jun-2001; LatestRevisionDate: 29-May-2009; LatestRevisionNote: Component Body Added.; DatasheetVersion: 25-Jan-1996; PackageVersion: 25-Jan-1996; PackageReference: 2-917334-4; Publisher: Altium Limited; Orientation: Vertical; HousingMaterial: Thermoplastic, Zinc Die Cast, UL 94V-0; ComponentLink1Description: Manufacturer Link; ComponentLink1URL: http://www.tycoelectronics.com/; ComponentLink2Description: Packaging Specification; ComponentLink2URL: http://ecommas.tycoelectronics.com/commerce/DocumentDelivery/DDEController?Action=showdoc&DocId=Customer+Drawing%7F917334%7FC%7Fpdf%7FEnglish%7FENG_CD_917334_C.pdf
footprint 2-917334-4 (Connector; CHAMP Miniature Ribbon 050 Series II; 26 Position; Vertical)
signal-integrity model CHAMP
pins: 1, 2, 3, 4, 5, 6, 7, 8, 9, 10, 11, 12, 13, 14, 15, 16, 17, 18, 19, 20, 21, 22, 23, 24, 25, 26, 27 MH1, 28 MH2

## 2-917334-5
designator J?
Receptacle Header Assemby, Vertical, Retention Leg CHAMP .050 Series II Std-Type (M2.6); ContactMaterial: Phosphor Bronze; ContactPlating: Gold (30); Positions: 36; PCB_Layout: Complies with manufacturer's recommendation.; DrillSize: Corresponds to nominal value.; Published: 15-Jun-2001; LatestRevisionDate: 29-May-2009; LatestRevisionNote: Component Body Added.; DatasheetVersion: 25-Jan-1996; PackageVersion: 25-Jan-1996; PackageReference: 2-917334-5; Publisher: Altium Limited; Orientation: Vertical; HousingMaterial: Thermoplastic, Zinc Die Cast, UL 94V-0; ComponentLink1Description: Manufacturer Link; ComponentLink1URL: http://www.tycoelectronics.com/; ComponentLink2Description: Packaging Specification; ComponentLink2URL: http://ecommas.tycoelectronics.com/commerce/DocumentDelivery/DDEController?Action=showdoc&DocId=Customer+Drawing%7F917334%7FC%7Fpdf%7FEnglish%7FENG_CD_917334_C.pdf
footprint 2-917334-5 (Connector; CHAMP Miniature Ribbon 050 Series II; 36 Position; Vertical)
signal-integrity model CHAMP
pins: 1, 2, 3, 4, 5, 6, 7, 8, 9, 10, 11, 12, 13, 14, 15, 16, 17, 18, 19, 20, 21, 22, 23, 24, 25, 26, 27, 28, 29, 30, 31, 32, 33, 34, 35, 36, 37 MH1, 38 MH2

## 2-917334-7
designator J?
Receptacle Header Assemby, Vertical, Retention Leg CHAMP .050 Series II Std-Type (M2.6); ContactMaterial: Phosphor Bronze; ContactPlating: Gold (30); Positions: 50; PCB_Layout: Complies with manufacturer's recommendation.; DrillSize: Corresponds to nominal value.; Published: 15-Jun-2001; LatestRevisionDate: 29-May-2009; LatestRevisionNote: Component Body Added.; DatasheetVersion: 25-Jan-1996; PackageVersion: 25-Jan-1996; PackageReference: 2-917334-7; Publisher: Altium Limited; Orientation: Vertical; HousingMaterial: Thermoplastic, Zinc Die Cast, UL 94V-0; ComponentLink1Description: Manufacturer Link; ComponentLink1URL: http://www.tycoelectronics.com/; ComponentLink2Description: Packaging Specification; ComponentLink2URL: http://ecommas.tycoelectronics.com/commerce/DocumentDelivery/DDEController?Action=showdoc&DocId=Customer+Drawing%7F917334%7FC%7Fpdf%7FEnglish%7FENG_CD_917334_C.pdf
footprint 2-917334-7 (Connector; CHAMP Miniature Ribbon 050 Series II; 50 Position; Vertical)
signal-integrity model CHAMP
pins: 1, 2, 3, 4, 5, 6, 7, 8, 9, 10, 11, 12, 13, 14, 15, 16, 17, 18, 19, 20, 21, 22, 23, 24, 25, 26, 27, 28, 29, 30, 31, 32, 33, 34, 35, 36, 37, 38, 39, 40, 41, 42, 43, 44, 45, 46, 47, 48, 49, 50, 51 MH1, 52 MH2

## 2-917334-8
designator J?
Receptacle Header Assemby, Vertical, Retention Leg CHAMP .050 Series II Std-Type (M2.6); ContactMaterial: Phosphor Bronze; ContactPlating: Gold (30); Positions: 68; PCB_Layout: Complies with manufacturer's recommendation.; DrillSize: Corresponds to nominal value.; Published: 15-Jun-2001; LatestRevisionDate: 29-May-2009; LatestRevisionNote: Component Body Added.; DatasheetVersion: 25-Jan-1996; PackageVersion: 25-Jan-1996; PackageReference: 2-917334-8; Publisher: Altium Limited; Orientation: Vertical; HousingMaterial: Thermoplastic, Zinc Die Cast, UL 94V-0; ComponentLink1Description: Manufacturer Link; ComponentLink1URL: http://www.tycoelectronics.com/; ComponentLink2Description: Packaging Specification; ComponentLink2URL: http://ecommas.tycoelectronics.com/commerce/DocumentDelivery/DDEController?Action=showdoc&DocId=Customer+Drawing%7F917334%7FC%7Fpdf%7FEnglish%7FENG_CD_917334_C.pdf
footprint 2-917334-8 (Connector; CHAMP Miniature Ribbon 050 Series II; 68 Position; Vertical)
signal-integrity model CHAMP
pins: 1, 2, 3, 4, 5, 6, 7, 8, 9, 10, 11, 12, 13, 14, 15, 16, 17, 18, 19, 20, 21, 22, 23, 24, 25, 26, 27, 28, 29, 30, 31, 32, 33, 34, 35, 36, 37, 38, 39, 40, 41, 42, 43, 44, 45, 46, 47, 48, 49, 50, 51, 52, 53, 54, 55, 56, 57, 58, 59, 60, 61, 62, 63, 64, 65, 66, 67, 68, 69 MH1, 70 MH2

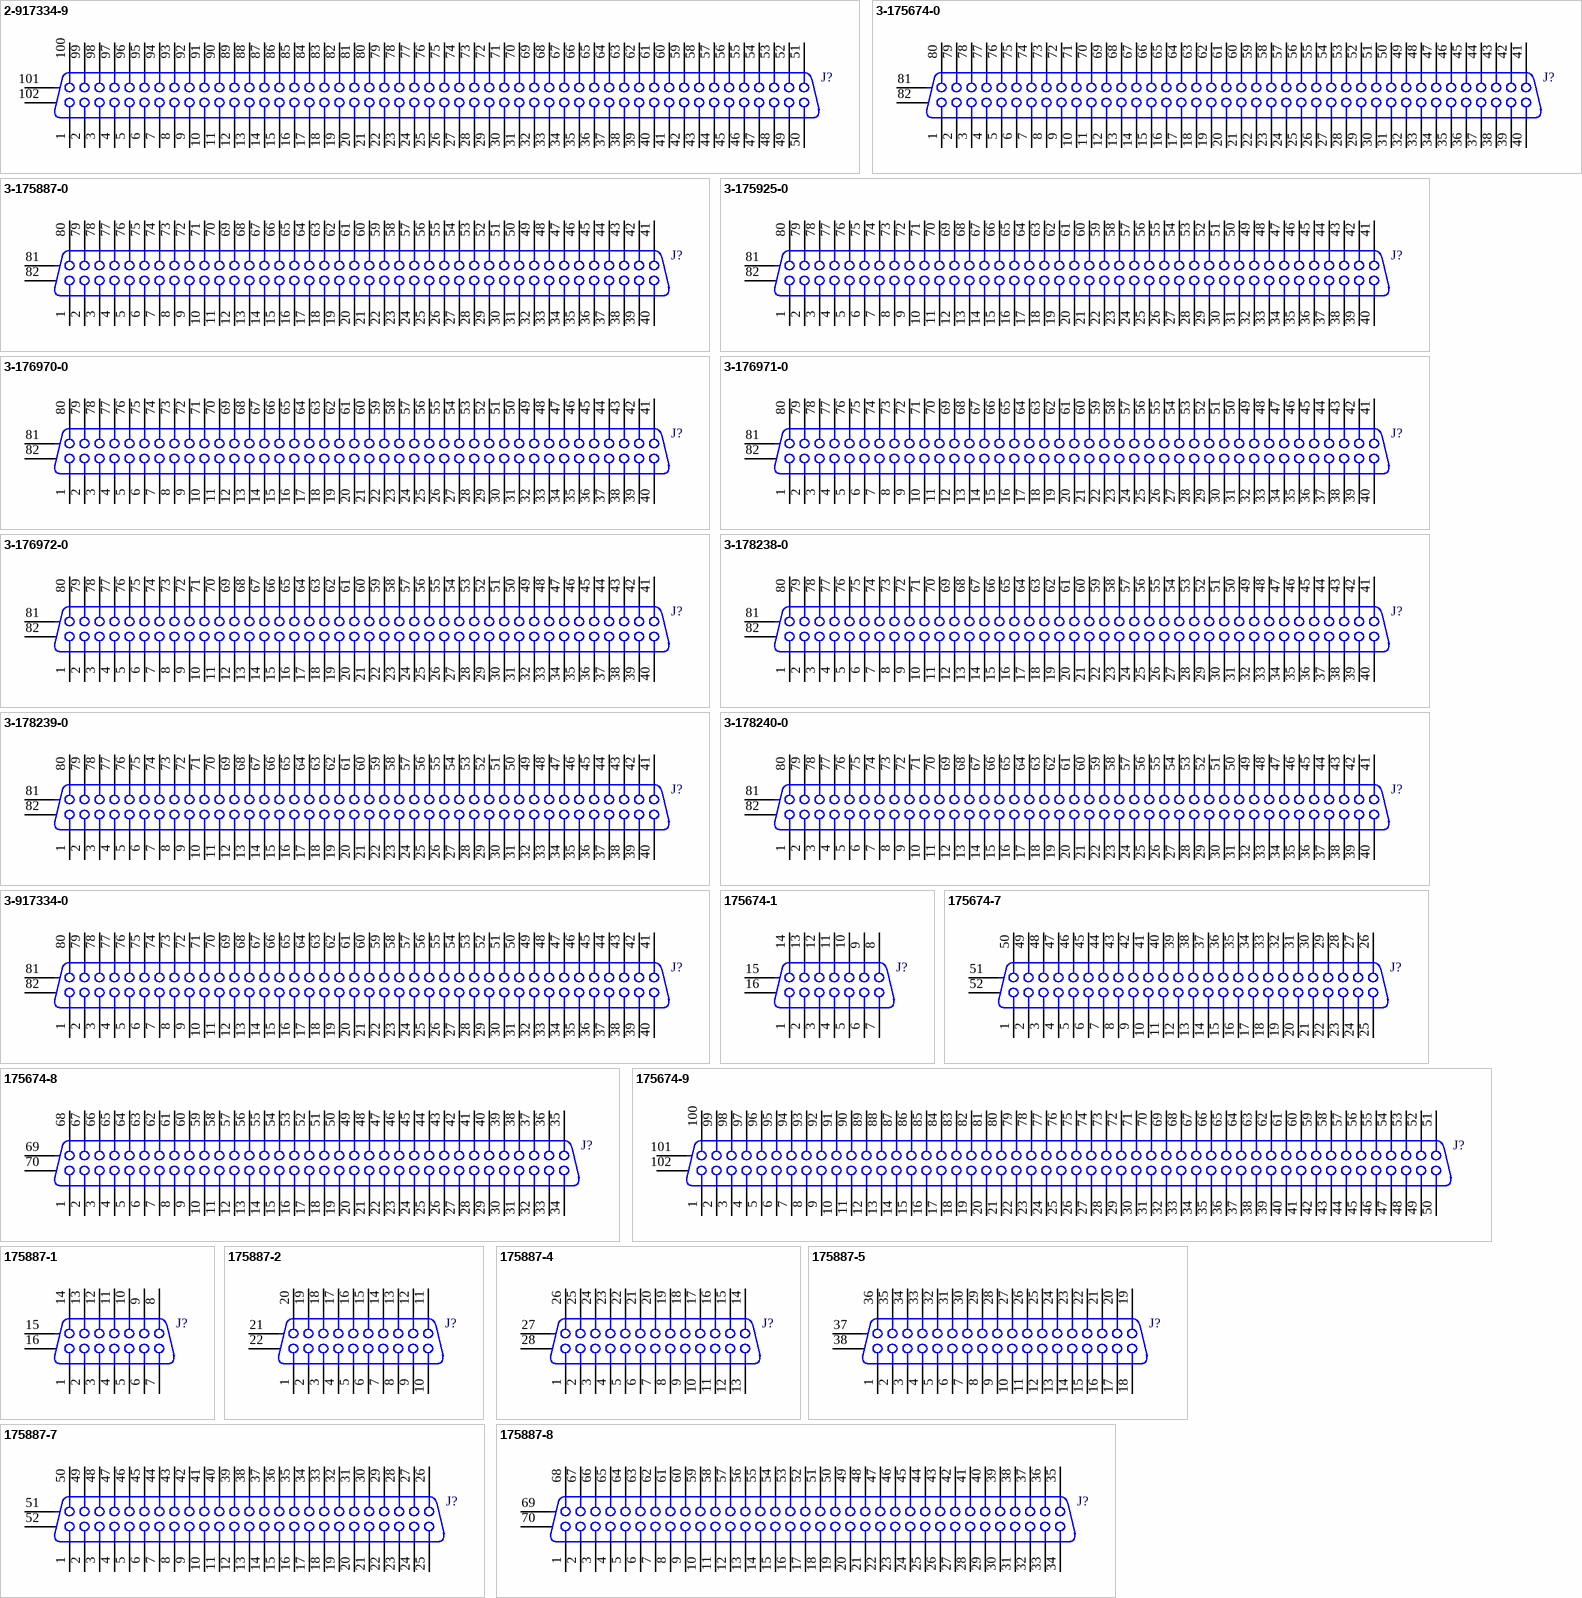
[diagram p3: symbols 2-917334-9 to 175887-8]

## 2-917334-9
designator J?
Receptacle Header Assemby, Vertical, Retention Leg CHAMP .050 Series II Std-Type (M2.6); ContactMaterial: Phosphor Bronze; ContactPlating: Gold (30); Positions: 100; PCB_Layout: Complies with manufacturer's recommendation.; DrillSize: Corresponds to nominal value.; Published: 15-Jun-2001; LatestRevisionDate: 29-May-2009; LatestRevisionNote: Component Body Added.; DatasheetVersion: 25-Jan-1996; PackageVersion: 25-Jan-1996; PackageReference: 2-917334-9; Publisher: Altium Limited; Orientation: Vertical; HousingMaterial: Thermoplastic, Zinc Die Cast, UL 94V-0; ComponentLink1Description: Manufacturer Link; ComponentLink1URL: http://www.tycoelectronics.com/; ComponentLink2Description: Packaging Specification; ComponentLink2URL: http://ecommas.tycoelectronics.com/commerce/DocumentDelivery/DDEController?Action=showdoc&DocId=Customer+Drawing%7F917334%7FC%7Fpdf%7FEnglish%7FENG_CD_917334_C.pdf
footprint 2-917334-9 (Connector; CHAMP Miniature Ribbon 050 Series II; 100 Position; Vertical)
signal-integrity model CHAMP
pins: 1, 2, 3, 4, 5, 6, 7, 8, 9, 10, 11, 12, 13, 14, 15, 16, 17, 18, 19, 20, 21, 22, 23, 24, 25, 26, 27, 28, 29, 30, 31, 32, 33, 34, 35, 36, 37, 38, 39, 40, 41, 42, 43, 44, 45, 46, 47, 48, 49, 50, 51, 52, 53, 54, 55, 56, 57, 58, 59, 60, 61, 62, 63, 64, 65, 66, 67, 68, 69, 70, 71, 72, 73, 74, 75, 76, 77, 78, 79, 80, 81, 82, 83, 84, 85, 86, 87, 88, 89, 90, 91, 92, 93, 94, 95, 96, 97, 98, 99, 100, 101 MH1, 102 MH2

## 3-175674-0
designator J?
Receptacle Header Assemby (3.9mm) without Retention Leg CHAMP .050 Series II; ContactMaterial: Phosphor Bronze; ContactPlating: Gold (30); Positions: 80; PCB_Layout: Complies with manufacturer's recommendation.; DrillSize: Corresponds to nominal value.; ComponentAvailability: Obsolete; Published: 15-Jun-2001; LatestRevisionDate: 29-May-2009; LatestRevisionNote: Component Body Added.; DatasheetVersion: 30-Nov-1999; PackageVersion: 30-Nov-1999; PackageReference: 3-175674-0; Publisher: Altium Limited; Orientation: Right Angle; HousingMaterial: Thermoplastic Polyester, UL 94V-0; ComponentLink1Description: Manufacturer Link; ComponentLink1URL: http://www.tycoelectronics.com/
footprint 3-175674-0 (Connector; CHAMP Miniature Ribbon 050 Series II; 80 Position; Right Angle)
signal-integrity model CHAMP
pins: 1, 2, 3, 4, 5, 6, 7, 8, 9, 10, 11, 12, 13, 14, 15, 16, 17, 18, 19, 20, 21, 22, 23, 24, 25, 26, 27, 28, 29, 30, 31, 32, 33, 34, 35, 36, 37, 38, 39, 40, 41, 42, 43, 44, 45, 46, 47, 48, 49, 50, 51, 52, 53, 54, 55, 56, 57, 58, 59, 60, 61, 62, 63, 64, 65, 66, 67, 68, 69, 70, 71, 72, 73, 74, 75, 76, 77, 78, 79, 80, 81 MH1, 82 MH2

## 3-175887-0
designator J?
Receptacle Header Assemby, Vertical CHAMP .050 Series II Std-Type (M2.6); ContactMaterial: Phosphor Bronze; ContactPlating: Gold (30); Positions: 80; PCB_Layout: Complies with manufacturer's recommendation.; DrillSize: Corresponds to nominal value.; ComponentAvailability: Obsolete; Published: 15-Jun-2001; LatestRevisionDate: 29-May-2009; LatestRevisionNote: Component Body Added.; DatasheetVersion: 26-Jan-1996; PackageVersion: 26-Jan-1996; PackageReference: 3-175887-0; Publisher: Altium Limited; Orientation: Vertical; HousingMaterial: Glass-Filled Nylon; ComponentLink1Description: Manufacturer Link; ComponentLink1URL: http://www.tycoelectronics.com/; ComponentLink2Description: Packaging Specification; ComponentLink2URL: http://ecommas.tycoelectronics.com/commerce/DocumentDelivery/DDEController?Action=showdoc&DocId=Customer+Drawing%7F175887%7FE%7Fpdf%7FEnglish%7FENG_CD_175887_E.pdf; ComponentLink3Description: Iges Model; ComponentLink3URL: http://catalog.tycoelectronics.com/TE/docs/cadgeo/3/92/2293.tar.gz
footprint 3-175887-0 (Connector; CHAMP Miniature Ribbon 050 Series II; 80 Position; Vertical)
signal-integrity model CHAMP
pins: 1, 2, 3, 4, 5, 6, 7, 8, 9, 10, 11, 12, 13, 14, 15, 16, 17, 18, 19, 20, 21, 22, 23, 24, 25, 26, 27, 28, 29, 30, 31, 32, 33, 34, 35, 36, 37, 38, 39, 40, 41, 42, 43, 44, 45, 46, 47, 48, 49, 50, 51, 52, 53, 54, 55, 56, 57, 58, 59, 60, 61, 62, 63, 64, 65, 66, 67, 68, 69, 70, 71, 72, 73, 74, 75, 76, 77, 78, 79, 80, 81 MH1, 82 MH2

## 3-175925-0
designator J?
Receptacle Header Assemby, Vertical CHAMP .050 Series II; ContactMaterial: Phosphor Bronze; ContactPlating: Gold (30); Positions: 80; PCB_Layout: Complies with manufacturer's recommendation.; DrillSize: Corresponds to nominal value.; ComponentAvailability: Obsolete; Published: 15-Jun-2001; LatestRevisionDate: 29-May-2009; LatestRevisionNote: Component Body Added.; DatasheetVersion: 20-Dec-1990; PackageVersion: 20-Dec-1990; PackageReference: 3-175925-0; Publisher: Altium Limited; Orientation: Vertical; HousingMaterial: Thermoplastic Polyester, UL 94V-0; ComponentLink1Description: Manufacturer Link; ComponentLink1URL: http://www.tycoelectronics.com/
footprint 3-175925-0 (Connector; CHAMP Miniature Ribbon 050 Series II; 80 Position; Vertical)
signal-integrity model CHAMP
pins: 1, 2, 3, 4, 5, 6, 7, 8, 9, 10, 11, 12, 13, 14, 15, 16, 17, 18, 19, 20, 21, 22, 23, 24, 25, 26, 27, 28, 29, 30, 31, 32, 33, 34, 35, 36, 37, 38, 39, 40, 41, 42, 43, 44, 45, 46, 47, 48, 49, 50, 51, 52, 53, 54, 55, 56, 57, 58, 59, 60, 61, 62, 63, 64, 65, 66, 67, 68, 69, 70, 71, 72, 73, 74, 75, 76, 77, 78, 79, 80, 81 MH1, 82 MH2

## 3-176970-0
designator J?
Receptacle Header Assemby (3.1mm) CHAMP .050 Series II Std-Type; ContactMaterial: Copper Alloy; ContactPlating: Gold (30); Positions: 80; PCB_Layout: Complies with manufacturer's recommendation.; DrillSize: Corresponds to nominal value.; ComponentAvailability: Restricted; Published: 15-Jun-2001; LatestRevisionDate: 29-May-2009; LatestRevisionNote: Component Body Added.; DatasheetVersion: 20-Sep-1994; PackageVersion: 20-Sep-1994; PackageReference: 3-176970-0; Publisher: Altium Limited; Orientation: Right Angle; HousingMaterial: Zinc Die Cast, UL 94V-0; ComponentLink1Description: Manufacturer Link; ComponentLink1URL: http://www.tycoelectronics.com/
footprint 3-176970-0 (Connector; CHAMP Miniature Ribbon 050 Series II; 80 Position; Right Angle)
signal-integrity model CHAMP
pins: 1, 2, 3, 4, 5, 6, 7, 8, 9, 10, 11, 12, 13, 14, 15, 16, 17, 18, 19, 20, 21, 22, 23, 24, 25, 26, 27, 28, 29, 30, 31, 32, 33, 34, 35, 36, 37, 38, 39, 40, 41, 42, 43, 44, 45, 46, 47, 48, 49, 50, 51, 52, 53, 54, 55, 56, 57, 58, 59, 60, 61, 62, 63, 64, 65, 66, 67, 68, 69, 70, 71, 72, 73, 74, 75, 76, 77, 78, 79, 80, 81 MH1, 82 MH2

## 3-176971-0
designator J?
Receptacle Header Assemby (3.9mm) CHAMP .050 Series II Std-Type; ContactMaterial: Phosphor Bronze; ContactPlating: Gold (30); Positions: 80; PCB_Layout: Complies with manufacturer's recommendation.; DrillSize: Corresponds to nominal value.; ComponentAvailability: Obsolete; Published: 15-Jun-2001; LatestRevisionDate: 29-May-2009; LatestRevisionNote: Component Body Added.; DatasheetVersion: 21-Sep-1994; PackageVersion: 21-Sep-1994; PackageReference: 3-176971-0; Publisher: Altium Limited; Orientation: Right Angle; HousingMaterial: Nylon, UL 94V-0; ComponentLink1Description: Manufacturer Link; ComponentLink1URL: http://www.tycoelectronics.com/
footprint 3-176971-0 (Connector; CHAMP Miniature Ribbon 050 Series II; 80 Position; Right Angle)
signal-integrity model CHAMP
pins: 1, 2, 3, 4, 5, 6, 7, 8, 9, 10, 11, 12, 13, 14, 15, 16, 17, 18, 19, 20, 21, 22, 23, 24, 25, 26, 27, 28, 29, 30, 31, 32, 33, 34, 35, 36, 37, 38, 39, 40, 41, 42, 43, 44, 45, 46, 47, 48, 49, 50, 51, 52, 53, 54, 55, 56, 57, 58, 59, 60, 61, 62, 63, 64, 65, 66, 67, 68, 69, 70, 71, 72, 73, 74, 75, 76, 77, 78, 79, 80, 81 MH1, 82 MH2